# Altium schematic symbol library PN_MOS (nexperia).SchLib: 1 symbol
Pins are listed as number, name and electrical type; pins without a type are passive.

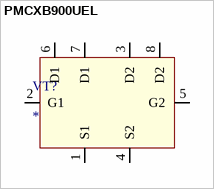
[diagram p0: symbol PMCXB900UEL]

## PMCXB900UEL
designator VT?
PN-MOS assemble from nexperia; Vgs (max): 8V; Vds (max): 20V; Tj (max): +150°C; Rds(on) (max): 850 mohm
pins: 1 S1, 2 G1, 3 D2, 4 S2, 5 G2, 6 D1, 7 D1, 8 D2